# Altium footprint library ECS-320-18-4XEN.PcbLib: 1 footprints
Each footprint in its own frame and in the unit in brackets; x right, y up, seen from the top. Pads: shape width x height; smd on the part's side, far side on the other; paste and mask are expansions set on the pad; w line width, h text height; cw(c..) or ccw(c..) is an arc to the next point about the centre after c.
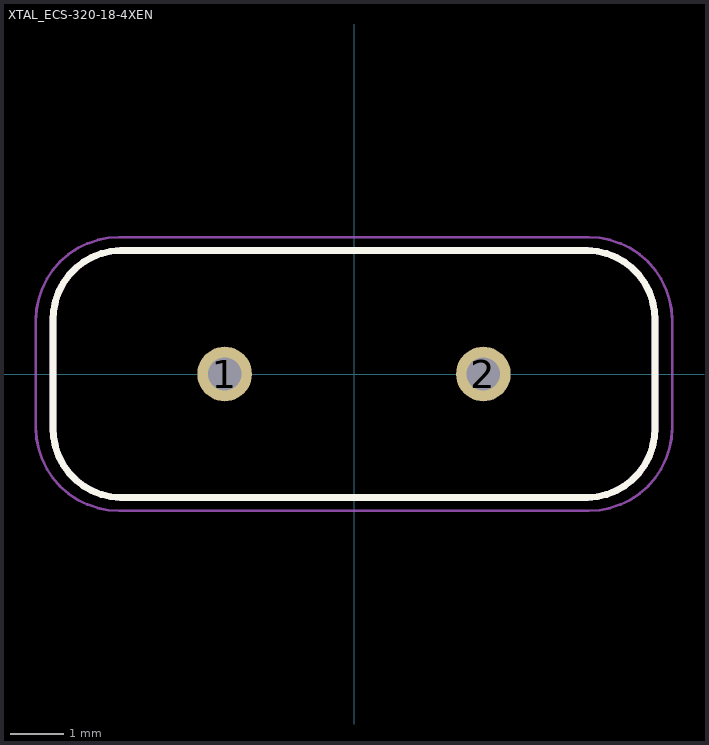
[diagram p0: the footprint, top view; thin cyan lines are the x and y axes]

## XTAL_ECS-320-18-4XEN [mm]
pads (2):
  round 1.03 hole 0.63: 1(-2.44,0) 2(2.44,0)
Top Overlay:
  lines w0.127: -5.675,-1.012 ccw(c-4.38,-1.035) -4.403,-2.33 ; -5.675,-1.01 -5.675,1.01 ; -5.675,1.012 cw(c-4.38,1.035) -4.403,2.33 ; -4.405,-2.33 4.405,-2.33 ; -4.405,2.33 4.405,2.33 ; 4.403,-2.33 ccw(c4.38,-1.035) 5.675,-1.012 ; 4.403,2.33 cw(c4.38,1.035) 5.675,1.012 ; 5.675,-1.01 5.675,1.01
Mechanical 13:
  lines w0.127: -5.675,-1.012 ccw(c-4.38,-1.035) -4.403,-2.33 ; -5.675,-1.01 -5.675,1.01 ; -5.675,1.012 cw(c-4.38,1.035) -4.403,2.33 ; -4.405,-2.33 4.405,-2.33 ; -4.405,2.33 4.405,2.33 ; 4.403,-2.33 ccw(c4.38,-1.035) 5.675,-1.012 ; 4.403,2.33 cw(c4.38,1.035) 5.675,1.012 ; 5.675,-1.01 5.675,1.01
Mechanical 15:
  lines w0.05: -6,-1.01 ccw(c-4.43,-1.01) -4.43,-2.58 4.43,-2.58 ccw(c4.43,-1.01) 6,-1.01 6,1.01 ccw(c4.43,1.01) 4.43,2.58 -4.43,2.58 ccw(c-4.43,1.01) -6,1.01 -6,-1.01
3D body "step_temp.STEP": height 3.5, standoff -12.7, extent -5.675,-2.325 5.675,2.325